# Altium footprint library TemperatureController(betaV1.0).PcbLib: 31 footprints (part 2 of 2)
Each footprint in its own frame and in the unit in brackets; x right, y up, seen from the top. Pads: shape width x height; smd on the part's side, far side on the other; paste and mask are expansions set on the pad; w line width, h text height; cw(c..) or ccw(c..) is an arc to the next point about the centre after c.
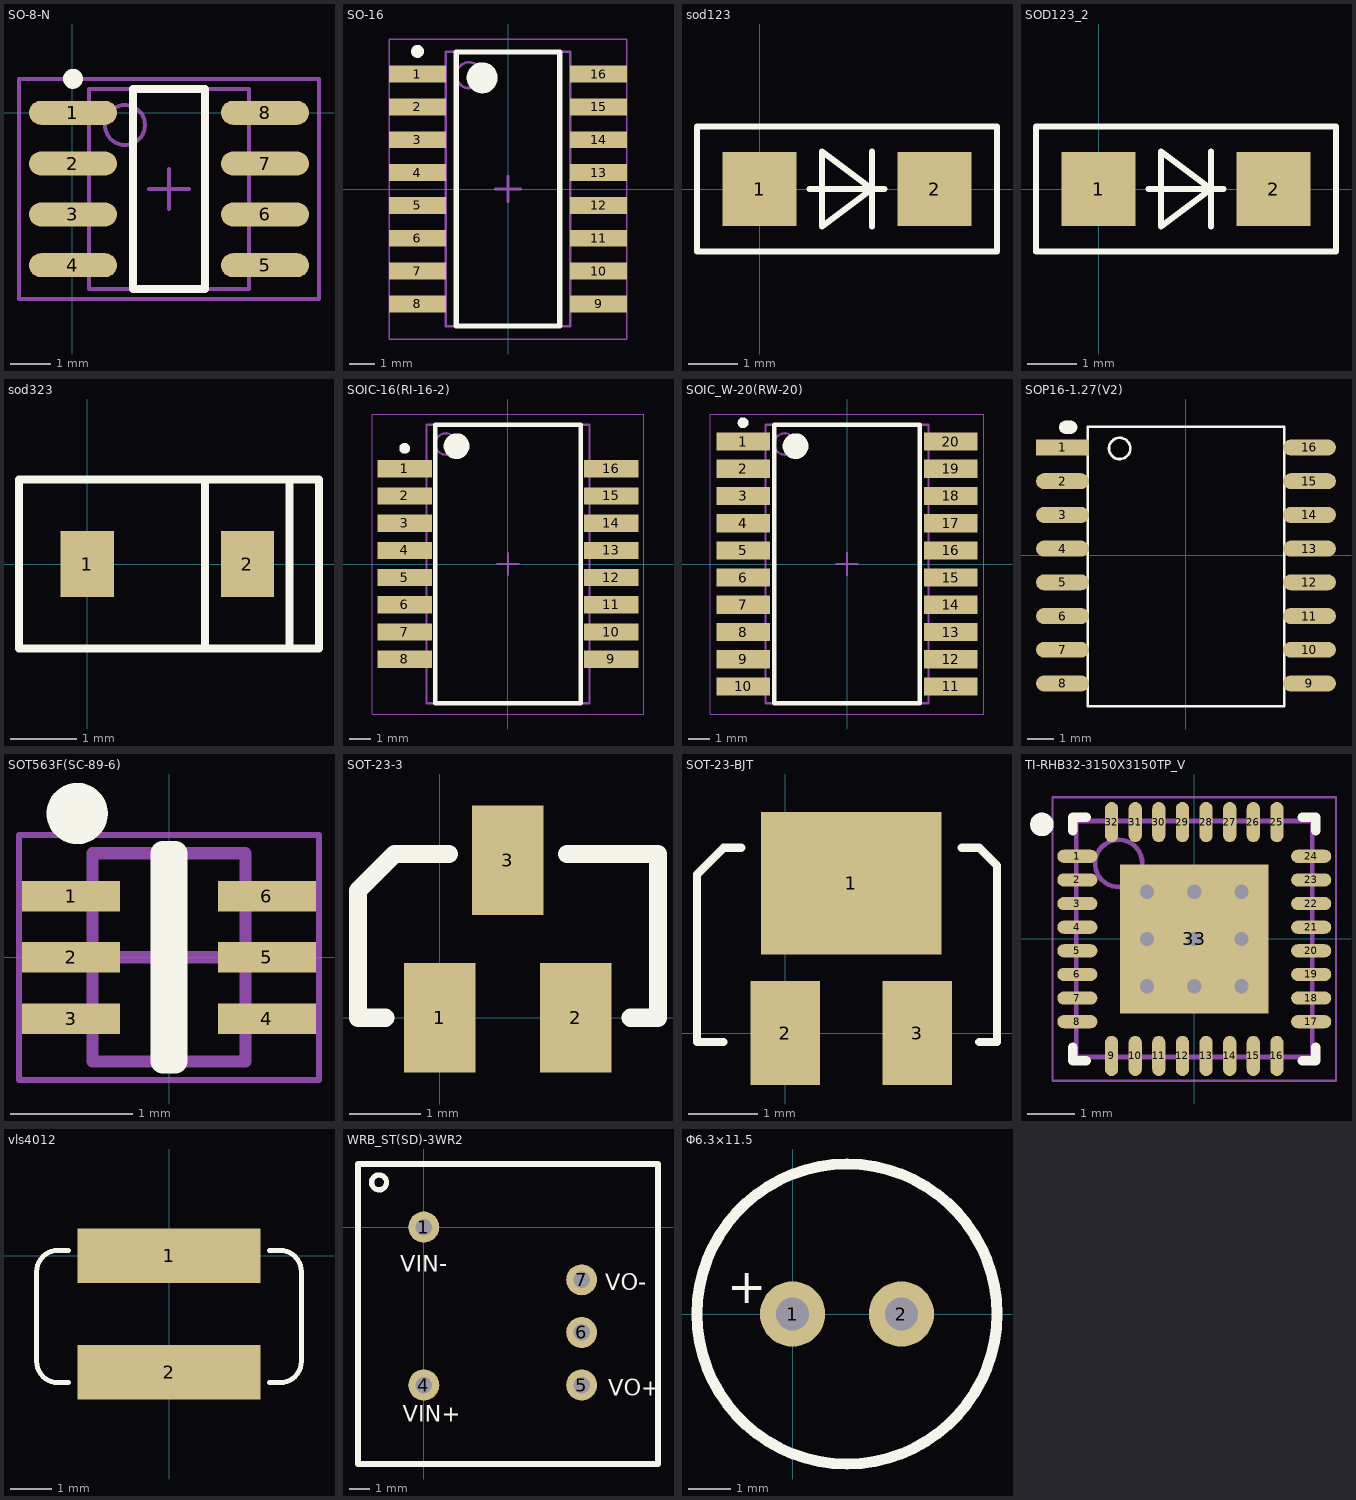
[diagram p1: the footprints below, top view; thin cyan lines are the x and y axes]

## SO-8-N [mm]
height 1.2
pads (8):
  oval 2.2x0.6 smd: 1(0.013,0) 2(0.013,-1.27) 3(0.013,-2.54) 4(0.013,-3.81) 5(4.813,-3.81) 6(4.813,-2.54) 7(4.813,-1.27) 8(4.813,0)
Top Overlay:
  circle w0.25: c0.013,0.85 r0.125
  lines w0.2: 1.513,-4.405 1.513,0.595 3.313,0.595 3.313,-4.405 1.513,-4.405
Mechanical 13:
  circle w0.1: c1.313,-0.305 r0.5
  lines w0.1: 0.413,-4.405 0.413,0.595 4.413,0.595 4.413,-4.405 0.413,-4.405
Mechanical 15:
  lines w0.1: 1.913,-1.905 2.913,-1.905 ; 2.413,-2.405 2.413,-1.405 ; -1.337,-4.655 -1.337,0.845 6.163,0.845 6.163,-4.655 -1.337,-4.655
3D body "CircuitWorks-SO-8.step": height 1.45, standoff 0, extent -0.476,-4.394 5.302,0.508

## SO-16 [mm]
height 2.11
pads (16):
  rect 2.2x0.65 smd: 1(-3.5,4.445) 2(-3.5,3.175) 3(-3.5,1.905) 4(-3.5,0.635) 5(-3.5,-0.635) 6(-3.5,-1.905) 7(-3.5,-3.175) 8(-3.5,-4.445) 9(3.5,-4.445) 10(3.5,-3.175) 11(3.5,-1.905) 12(3.5,-0.635) 13(3.5,0.635) 14(3.5,1.905) 15(3.5,3.175) 16(3.5,4.445)
Top Overlay:
  circle w0.25: c-3.5,5.32 r0.125
  circle w0.6: c-1,4.3 r0.3
  lines w0.2: -2,-5.3 -2,5.3 2,5.3 2,-5.3 -2,-5.3
Mechanical 13:
  circle w0.1: c-1.5,4.4 r0.5
  lines w0.1: -2.4,-5.3 -2.4,5.3 2.4,5.3 2.4,-5.3 -2.4,-5.3
Mechanical 15:
  lines w0.05: -4.6,-5.8 -4.6,5.8 4.6,5.8 4.6,-5.8 -4.6,-5.8
  lines w0.1: -0.5,0 0.5,0 ; 0,-0.5 0,0.5
3D body "SO-16.step": height 2.11, standoff 0, extent -3.5,-5.3 3.5,5.3

## sod123 [mm]
height 1.05
pads (2):
  rect 1.5x1.5 smd: 1(0,0) 2(3.556,0)
Top Overlay:
  lines w0.12: 1.016,0 2.54,0 ; 2.286,-0.762 2.286,0.762 ; -1.27,-1.27 4.826,-1.27 4.826,1.27 -1.27,1.27 -1.27,-1.27 ; 1.27,-0.762 1.27,0.762 2.286,0 1.27,-0.762
3D body "CircuitWorks-SOD123.step": height 1.27, standoff 0, extent -0.199,-0.8 3.501,0.8

## SOD123_2 [mm]
pads (2):
  rect 1.5x1.5 smd: 1(0,0) 2(3.556,0)
Top Overlay:
  lines w0.12: 1.016,0 2.54,0 ; 2.286,-0.762 2.286,0.762 ; -1.27,-1.27 4.826,-1.27 4.826,1.27 -1.27,1.27 -1.27,-1.27 ; 1.27,-0.762 1.27,0.762 2.286,0 1.27,-0.762
3D body "CircuitWorks-SOD123.step": height 1.27, standoff 0, extent -0.199,-0.8 3.501,0.8

## sod323 [mm]
height 0.9
pads (2):
  rect 0.8x1 smd: 1(0,0) 2(2.413,0)
Top Overlay:
  lines w0.12: 1.778,-1.27 1.778,1.27 ; 3.048,-1.27 3.048,1.27 ; -1.028,-1.27 -1.028,1.27 3.493,1.27 3.493,-1.27 -1.028,-1.27
3D body "User Library-SOD-323.step": height 1.1, standoff 0, extent -0.157,-0.675 2.443,0.675

## SOIC-16(RI-16-2) [mm]
height 2.64
pads (16):
  rect 2.54x0.8 smd: 1(-4.825,4.445) 2(-4.825,3.175) 3(-4.825,1.905) 4(-4.825,0.635) 5(-4.825,-0.635) 6(-4.825,-1.905) 7(-4.825,-3.175) 8(-4.825,-4.445) 9(4.825,-4.445) 10(4.825,-3.175) 11(4.825,-1.905) 12(4.825,-0.635) 13(4.825,0.635) 14(4.825,1.905) 15(4.825,3.175) 16(4.825,4.445)
Top Overlay:
  circle w0.6: c-2.4,5.5 r0.3
  circle w0.25: c-4.825,5.395 r0.125
  lines w0.2: -3.4,-6.5 3.4,-6.5 3.4,6.5 -3.4,6.5 -3.4,-6.5
Mechanical 13:
  circle w0.1: c-2.9,5.6 r0.5
  lines w0.1: -3.8,-6.5 3.8,-6.5 3.8,6.5 -3.8,6.5 -3.8,-6.5
Mechanical 15:
  lines w0.05: -6.325,-7 6.325,-7 6.325,7 -6.325,7 -6.325,-7
  lines w0.1: -0.5,0 0.5,0 ; 0,-0.5 0,0.5
3D body "SOIC-16(RI-16-2).step": height 2.64, standoff 0, extent -5.15,-6.5 5.15,6.5

## SOIC_W-20(RW-20) [mm] "SOIC, 20-Leads, Body 12.80x7.50mm, Pitch 1.27mm, IPC Low Density"
height 2.65
pads (20):
  rect 2.5x0.85 smd: 1(-4.85,5.715) 2(-4.85,4.445) 3(-4.85,3.175) 4(-4.85,1.905) 5(-4.85,0.635) 6(-4.85,-0.635) 7(-4.85,-1.905) 8(-4.85,-3.175) 9(-4.85,-4.445) 10(-4.85,-5.715) 11(4.85,-5.715) 12(4.85,-4.445) 13(4.85,-3.175) 14(4.85,-1.905) 15(4.85,-0.635) 16(4.85,0.635) 17(4.85,1.905) 18(4.85,3.175) 19(4.85,4.445) 20(4.85,5.715)
Top Overlay:
  circle w0.25: c-4.85,6.59 r0.125
  circle w0.6: c-2.4,5.5 r0.3
  lines w0.2: -3.4,-6.5 -3.4,6.5 3.4,6.5 3.4,-6.5 -3.4,-6.5
Mechanical 13:
  circle w0.1: c-2.9,5.6 r0.5
  lines w0.1: -3.8,-6.5 -3.8,6.5 3.8,6.5 3.8,-6.5 -3.8,-6.5
Mechanical 15:
  lines w0.05: -6.375,-7 -6.375,7 6.375,7 6.375,-7 -6.375,-7
  lines w0.1: -0.5,0 0.5,0 ; 0,-0.5 0,0.5
3D body "SOIC_W-20(RW-20).step": height 2.65, standoff 0, extent -5.162,-6.5 5.162,6.5

## SOP16-1.27(V2) [mm]
pads (17):
  rect 2x0.6 smd: 1(-4.65,4.064)
  oval 2x0.6 smd: 2(-4.65,2.794) 3(-4.65,1.524) 4(-4.65,0.254) 5(-4.65,-1.016) 6(-4.65,-2.286) 7(-4.65,-3.556) 8(-4.65,-4.826) 9(4.65,-4.826) 10(4.65,-3.556) 11(4.65,-2.286) 12(4.65,-1.016) 13(4.65,0.254) 14(4.65,1.524) 15(4.65,2.794) 16(4.65,4.064)
  oval 0.7x0.5 on Top Overlay mask+0.051: ""(-4.44,4.826)
Top Overlay:
  circle w0.1: c-2.499,4.027 r0.4
  lines w0.1: -3.7,-5.68 -3.7,4.849 3.7,4.849 3.7,-5.68 -3.7,-5.68
3D body "SILICON LABS-SI8235BD.stp": height 2.25, standoff 0, extent -5.161,-5.553 5.201,4.747

## SOT563F(SC-89-6) [mm] "SOTFL, 6-Leads, Body 1.60x1.60mm, Pitch 0.50mm, IPC Medium Density"
height 0.6
pads (6):
  rect 0.8x0.25 smd: 1(-0.8,0.5) 2(-0.8,0) 3(-0.8,-0.5) 4(0.8,-0.5) 5(0.8,0) 6(0.8,0.5)
Top Overlay:
  circle w0.25: c-0.75,1.175 r0.125
  lines w0.2: -0.05,-0.85 -0.05,0.85 0.05,0.85 0.05,-0.85 -0.05,-0.85
Mechanical 13:
  lines w0.1: -0.625,-0.85 0.625,-0.85 0.625,0.85 -0.625,0.85 -0.625,-0.85
Mechanical 15:
  lines w0.05: -1.225,-1 1.225,-1 1.225,1 -1.225,1 -1.225,-1
  lines w0.1: -0.5,0 0.5,0 ; 0,-0.5 0,0.5
3D body "SOT563F(SC-89-6).step": height 0.6, standoff 0, extent -0.8,-0.848 0.8,0.848

## SOT-23-3 [mm]
height 1.12
pads (3):
  rect 1x1.524 smd: 1(0,0) 2(1.9,0) 3(0.95,2.2)
Top Overlay:
  lines w0.254: -0.762,0 -1.143,0 -1.143,1.778 -0.635,2.286 0.127,2.286 ; 1.778,2.286 3.048,2.286 3.048,0 2.667,0
3D body "CircuitWorks-SOT-23.step": height 0.55, standoff -0.55, extent -0.55,-0.234 2.45,2.266

## SOT-23-BJT [mm]
height 1
pads (3):
  rect 2.6x2.05 smd: 1(0.95,2.159)
  rect 1x1.5 smd: 2(0,0) 3(1.9,0)
Top Overlay:
  lines w0.12: -0.889,-0.127 -1.27,-0.127 -1.27,2.286 -0.889,2.667 -0.635,2.667 ; 2.54,2.667 2.794,2.667 3.048,2.413 3.048,-0.127 2.794,-0.127
3D body "CircuitWorks-SOT-23.step": height 0.55, standoff -0.55, extent -0.55,-0.234 2.45,2.266

## TI-RHB32-3150X3150TP_V [mm] "QFN, 32-Leads, Body 5x5mm, Pitch 0.5mm, Thermal Pad 3.15x3.15mm"
height 1
pads (33):
  oval 0.85x0.28 smd: 1(-2.475,1.75) 2(-2.475,1.25) 3(-2.475,0.75) 4(-2.475,0.25) 5(-2.475,-0.25) 6(-2.475,-0.75) 7(-2.475,-1.25) 8(-2.475,-1.75) 17(2.475,-1.75) 18(2.475,-1.25) 19(2.475,-0.75) 20(2.475,-0.25) 21(2.475,0.25) 22(2.475,0.75) 23(2.475,1.25) 24(2.475,1.75)
  oval 0.28x0.85 smd: 9(-1.75,-2.475) 10(-1.25,-2.475) 11(-0.75,-2.475) 12(-0.25,-2.475) 13(0.25,-2.475) 14(0.75,-2.475) 15(1.25,-2.475) 16(1.75,-2.475) 25(1.75,2.475) 26(1.25,2.475) 27(0.75,2.475) 28(0.25,2.475) 29(-0.25,2.475) 30(-0.75,2.475) 31(-1.25,2.475) 32(-1.75,2.475)
  rect 3.15x3.15 smd: 33(0,0)
via 1,-1 diameter 0.5 hole 0.3
via 0,-1 diameter 0.5 hole 0.3
via -1,-1 diameter 0.5 hole 0.3
via 1,0 diameter 0.5 hole 0.3
via 0,0 diameter 0.5 hole 0.3
via -1,0 diameter 0.5 hole 0.3
via 1,1 diameter 0.5 hole 0.3
via 0,1 diameter 0.5 hole 0.3
via -1,1 diameter 0.5 hole 0.3
Top Overlay:
  circle w0.25: c-3.225,2.425 r0.125
  lines w0.2: -2.575,-2.29 -2.575,-2.575 -2.29,-2.575 ; -2.575,2.29 -2.575,2.575 -2.29,2.575 ; 2.29,-2.575 2.575,-2.575 2.575,-2.29 ; 2.29,2.575 2.575,2.575 2.575,2.29
Mechanical 13:
  circle w0.1: c-1.6,1.6 r0.5
  lines w0.1: -2.5,-2.5 2.5,-2.5 2.5,2.5 -2.5,2.5 -2.5,-2.5
Mechanical 15:
  lines w0.05: -3,-3 3,-3 3,3 -3,3 -3,-3
  lines w0.1: -0.5,0 0.5,0 ; 0,-0.5 0,0.5
3D body "User Library-QFN-32-5x5 - EQ.step": height 0.85, standoff 0, extent -2.54,-2.5 2.46,2.5

## vls4012 [mm]
height 1.2
pads (2):
  rect 4.4x1.3 smd: 1(0,0) 2(0,-2.8)
Top Overlay:
  lines w0.12: -2.413,-3.048 -2.667,-3.048 cw(c-2.667,-2.54) -3.175,-2.54 -3.175,-0.381 cw(c-2.667,-0.381) -2.667,0.127 -2.413,0.127 ; 2.413,-3.048 2.667,-3.048 ccw(c2.667,-2.54) 3.175,-2.54 3.175,-0.381 ccw(c2.667,-0.381) 2.667,0.127 2.413,0.127
3D body "44794.stp": height 1.7, standoff -0.1, extent -2.03,-3.622 2.03,0.828

## WRB_ST(SD)-3WR2 [mm] "WRB_ST(SD)-3WR2"
height 9
pads (5):
  round 1.5 hole 0.8: 1(0,0) 4(0,-7.62) 5(7.62,-7.62) 6(7.62,-5.08) 7(7.62,-2.54)
Top Overlay:
  circle w0.254: c-2.159,2.159 r0.359
  lines w0.3: -3.175,-11.43 11.303,-11.43 11.303,3.048 -3.175,3.048 -3.175,-11.43
  text "VIN-" at -1.143,-2.159 h0.8
  text "VIN+" at -1.016,-9.398 h0.8
  text "VO+" at 8.89,-8.128 h0.8
  text "VO-" at 8.763,-3.048 h0.8
3D body "WRB_SD-3WR2.stp": height 9, standoff -3.1, extent -2.936,-11.191 11.064,2.809

## Φ6.3×11.5 [mil]
height 511.81
pads (2):
  round 60 hole 30: 1(0,0) 2(100,0)
Top Overlay:
  circle w10: c50,0 r137.8
  text "+" at -60,9.75 h31.5
3D body "User Library-Cap electro 6_3x11x2_5mm.step": height 453.76, standoff -118.67, extent -75.01,-125.01 175.02,125.02